# Altium footprint library 5019512010.PcbLib: 1 footprints
Each footprint in its own frame and in the unit in brackets; x right, y up, seen from the top. Pads: shape width x height; smd on the part's side, far side on the other; paste and mask are expansions set on the pad; w line width, h text height; cw(c..) or ccw(c..) is an arc to the next point about the centre after c.
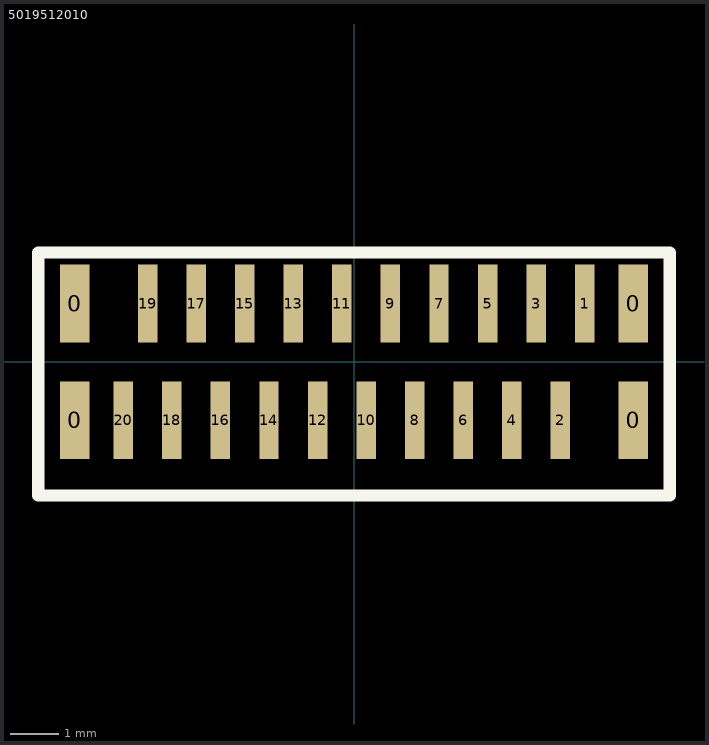
[diagram p0: the footprint, top view; thin cyan lines are the x and y axes]

## 5019512010 [mm]
pads (24):
  rect 0.6x1.6 smd: 0(-5.75,-1.2) 0(-5.75,1.2) 0(5.75,-1.2) 0(5.75,1.2)
  rect 0.4x1.6 smd: 1(4.75,1.2) 2(4.25,-1.2) 3(3.75,1.2) 4(3.25,-1.2) 5(2.75,1.2) 6(2.25,-1.2) 7(1.75,1.2) 8(1.25,-1.2) 9(0.75,1.2) 10(0.25,-1.2) 11(-0.25,1.2) 12(-0.75,-1.2) 13(-1.25,1.2) 14(-1.75,-1.2) 15(-2.25,1.2) 16(-2.75,-1.2) 17(-3.25,1.2) 18(-3.75,-1.2) 19(-4.25,1.2) 20(-4.75,-1.2)
Top Overlay:
  lines w0.254: -6.5,-2.75 6.5,-2.75 6.5,2.25 -6.5,2.25 -6.5,-2.75
3D body: height 4.04, standoff -0.01, extent -6.4,-2.65 6.4,1.85